# Altium footprint library SSOP-4(4.4X2.7).PcbLib: 1 footprints
Each footprint in its own frame and in the unit in brackets; x right, y up, seen from the top. Pads: shape width x height; smd on the part's side, far side on the other; paste and mask are expansions set on the pad; w line width, h text height; cw(c..) or ccw(c..) is an arc to the next point about the centre after c.
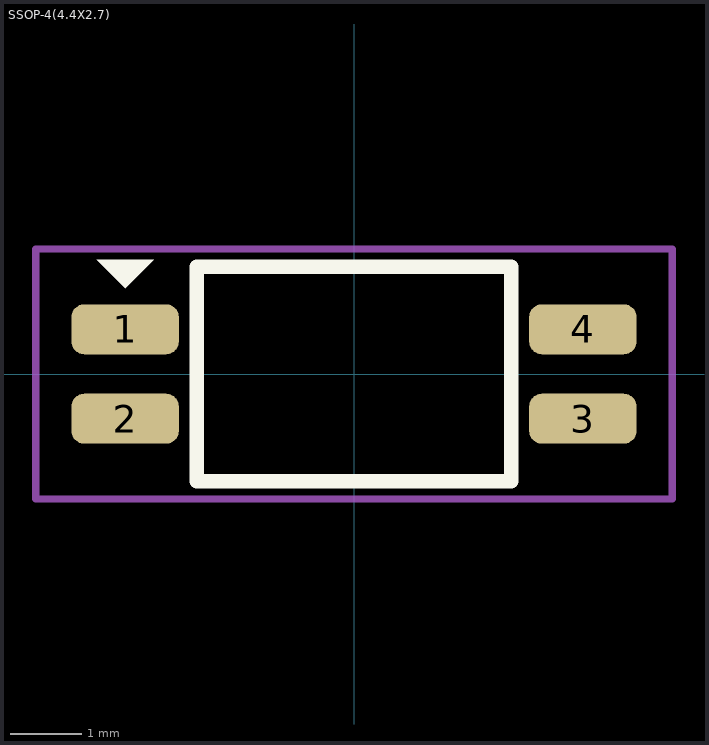
[diagram p0: the footprint, top view; thin cyan lines are the x and y axes]

## SSOP-4(4.4X2.7) [mm]
pads (4):
  rrect50% 1.5x0.7 smd: 1(-3.2,0.625) 2(-3.2,-0.625) 3(3.2,-0.625) 4(3.2,0.625)
Top Overlay:
  region: -3.6,1.6 -2.8,1.6 -3.2,1.2
  lines w0.2: -2.2,-1.5 2.2,-1.5 2.2,1.5 -2.2,1.5 -2.2,-1.5
Top Courtyard:
  lines w0.1: -4.45,-1.75 -4.45,1.75 4.45,1.75 4.45,-1.75 -4.45,-1.75
3D body "SOIC127P700X200-4N.step": height 2, standoff 0, extent -3.5,-1.5 3.5,1.5